# Altium footprint library PCB - RELAY - OMRON G6K-24.PCBLIB: 2 footprints
Each footprint in its own frame and in the unit in brackets; x right, y up, seen from the top. Pads: shape width x height; smd on the part's side, far side on the other; paste and mask are expansions set on the pad; w line width, h text height; cw(c..) or ccw(c..) is an arc to the next point about the centre after c.
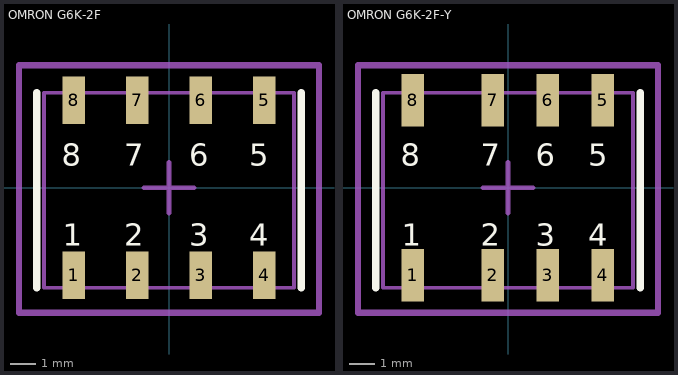
[diagram p0: the footprints below, top view; thin cyan lines are the x and y axes]

## OMRON G6K-2F [mm]
height 5.2
pads (8):
  rect 0.9x1.9 smd: 1(-3.81,-3.5) 2(-1.27,-3.5) 3(1.27,-3.5) 4(3.81,-3.5) 5(3.81,3.5) 6(1.27,3.5) 7(-1.27,3.5) 8(-3.81,3.5)
Top Overlay:
  lines w0.3: -5.3,-4 -5.3,3.8 ; 5.3,-4 5.3,3.8
  text "5" at 3.201,0.888 h0.89
  text "6" at 0.801,0.888 h0.89
  text "7" at -1.799,0.888 h0.89
  text "8" at -4.299,0.888 h0.89
  text "4" at 3.201,-2.313 h0.89
  text "3" at 0.801,-2.313 h0.89
  text "2" at -1.799,-2.313 h0.89
  text "1" at -4.25,-2.313 h0.89
Mechanical 1:
  lines w0.15: -5,-4 5,-4 5,3.8 -5,3.8 -5,-4
Mechanical 15:
  lines w0.2: -1,0 1,0 ; 0,-1 0,1
  lines w0.25: -6,-5 6,-5 6,4.9 -6,4.9 -6,-5
3D body "G6K_2F.STEP": height 5.2, standoff 0, extent -5,-4 5,3.8

## OMRON G6K-2F-Y [mm]
height 5.2
pads (8):
  rect 0.9x2.1 smd: 1(-3.81,-3.5) 2(-0.61,-3.5) 3(1.59,-3.5) 4(3.79,-3.5) 5(3.79,3.5) 6(1.59,3.5) 7(-0.61,3.5) 8(-3.81,3.5)
Top Overlay:
  lines w0.3: -5.3,-4 -5.3,3.8 ; 5.3,-4 5.3,3.8
  text "1" at -4.25,-2.313 h0.89
  text "2" at -1.099,-2.313 h0.89
  text "3" at 1.101,-2.313 h0.89
  text "4" at 3.201,-2.313 h0.89
  text "8" at -4.299,0.888 h0.89
  text "7" at -1.099,0.888 h0.89
  text "6" at 1.101,0.888 h0.89
  text "5" at 3.201,0.888 h0.89
Mechanical 1:
  lines w0.15: -5,-4 -5,3.8 5,3.8 5,-4 -5,-4
Mechanical 15:
  lines w0.2: -1,0 1,0 ; 0,-1 0,1
  lines w0.25: -6,-5 -6,4.9 6,4.9 6,-5 -6,-5
3D body "G6K_2F_Y.step": height 5.2, standoff 0, extent -5.01,-4 4.99,3.8